# EAGLE library part TPS55386 (library 2020-03-18-Lib)
TPS55386 Dual Buck Regulator Number of channels: 2 Output current: 3A per channel Max Input voltage: 28V Frequency: 600KHz
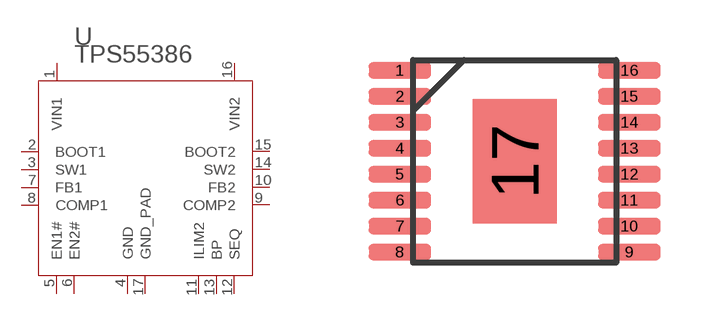
[diagram p4: symbol with the pads of HTSSOP16; footprint HTSSOP16]

Designator prefix -

## TPS55386  [HTSSOP16]
1  VIN1
2  BOOT1
3  SW1
4  GND
5  EN1#
6  EN2#
7  FB1
8  COMP1
9  COMP2
10  FB2
11  ILIM2
12  SEQ
13  BP
14  SW2
15  BOOT2
16  VIN2
17  GND_PAD

## Footprint HTSSOP16 (pad centres in mm)
HTSSOP16 16 pin power package with thermal pad
smd 1.57 x 0.41: 1 -2.87,2.275; 2 -2.87,1.625; 3 -2.87,0.975; 4 -2.87,0.325; 5 -2.87,-0.325; 6 -2.87,-0.975; 7 -2.87,-1.625; 8 -2.87,-2.275; 9 2.87,-2.275; 10 2.87,-1.625; 11 2.87,-0.975; 12 2.87,-0.325; 13 2.87,0.325; 14 2.87,0.975; 15 2.87,1.625; 16 2.87,2.275
smd 2.105 x 3.115: 17 0,0